# EAGLE library part 2706-103/000-017 (library con-wago_2706)
Serie 2706, Stand: 01.01.2012. Die jeweils aktuellen Daten zu diesem Artikel finden Sie in unserem Produktkatalog, den Sie unter www.wago.com einsehen können. As of: 01/01/2012. Please find the newest data for this article in our product catalogue, which can be viewed under www.wago.com.
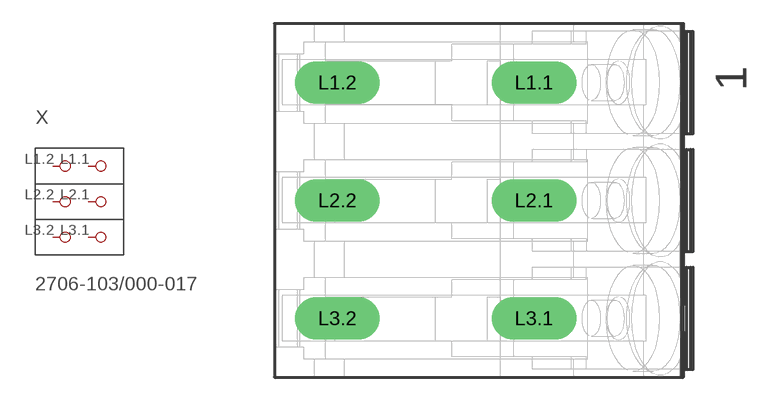
[diagram p40: symbol with the pads of P-2706-103; footprint P-2706-103]

Designator prefix X

## 2706-103/000-017  [P-2706-103]
L1.1  P1.1
L1.2  P1.2
L2.1  P2.1
L2.2  P2.2
L3.1  P3.1
L3.2  P3.2

## Footprint P-2706-103 (pad centres in mm)
drill 1.8 long: L1.1 3.185,7.5; L1.2 -9.315,7.5; L2.1 3.185,0; L2.2 -9.315,0; L3.1 3.185,-7.5; L3.2 -9.315,-7.5